# EAGLE library part CH585M (library CH585M)
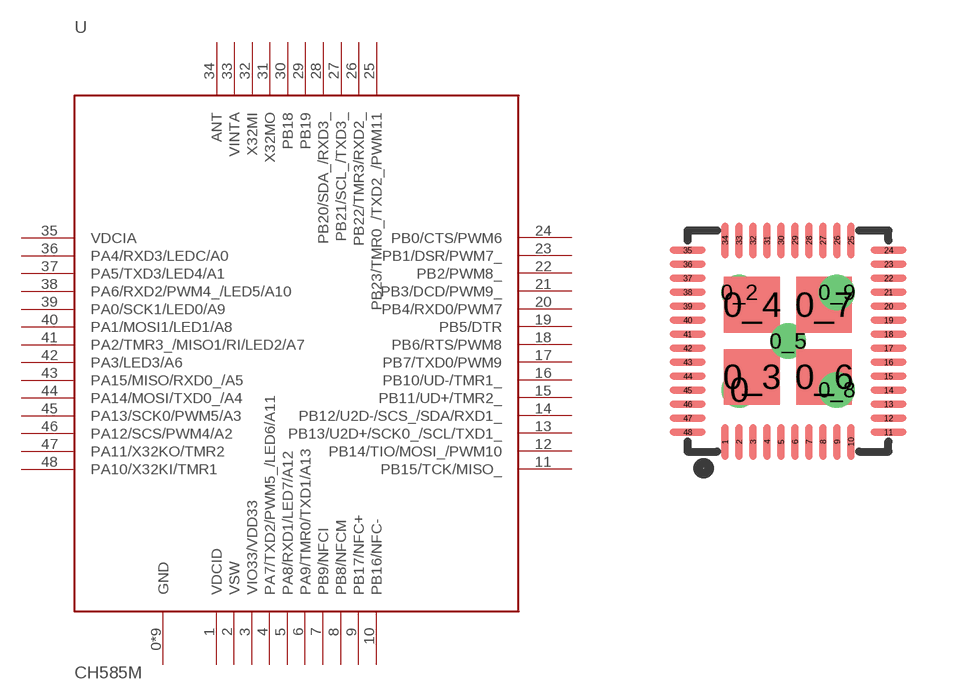
[diagram p0: symbol with the pads of QFN48_5X5; footprint QFN48_5X5]

Designator prefix U

## CH585M-QFN48_5X5  [QFN48_5X5]
0  GND
0_2  GND
0_3  GND
0_4  GND
0_5  GND
0_6  GND
0_7  GND
0_8  GND
0_9  GND
1  VDCID
2  VSW
3  VIO33/VDD33
4  PA7/TXD2/PWM5_/LED6/A11
5  PA8/RXD1/LED7/A12
6  PA9/TMR0/TXD1/A13
7  PB9/NFCI
8  PB8/NFCM
9  PB17/NFC+
10  PB16/NFC-
11  PB15/TCK/MISO_
12  PB14/TIO/MOSI_/PWM10
13  PB13/U2D+/SCK0_/SCL/TXD1_
14  PB12/U2D-/SCS_/SDA/RXD1_
15  PB11/UD+/TMR2_
16  PB10/UD-/TMR1_
17  PB7/TXD0/PWM9
18  PB6/RTS/PWM8
19  PB5/DTR
20  PB4/RXD0/PWM7
21  PB3/DCD/PWM9_
22  PB2/PWM8_
23  PB1/DSR/PWM7_
24  PB0/CTS/PWM6
25  PB23/TMR0_/TXD2_/PWM11
26  PB22/TMR3/RXD2_
27  PB21/SCL_/TXD3_
28  PB20/SDA_/RXD3_
29  PB19
30  PB18
31  X32MO
32  X32MI
33  VINTA
34  ANT
35  VDCIA
36  PA4/RXD3/LEDC/A0
37  PA5/TXD3/LED4/A1
38  PA6/RXD2/PWM4_/LED5/A10
39  PA0/SCK1/LED0/A9
40  PA1/MOSI1/LED1/A8
41  PA2/TMR3_/MISO1/RI/LED2/A7
42  PA3/LED3/A6
43  PA15/MISO/RXD0_/A5
44  PA14/MOSI/TXD0_/A4
45  PA13/SCK0/PWM5/A3
46  PA12/SCS/PWM4/A2
47  PA11/X32KO/TMR2
48  PA10/X32KI/TMR1

## Footprint QFN48_5X5 (pad centres in mm)
drill 0.381 pad 0.559 round: 0 -1.219,-1.219; 0_2 -1.219,1.219; 0_5 0,0; 0_8 1.219,-1.219; 0_9 1.219,1.219
smd 1.397 x 1.397: 0_3 -0.901,-0.895; 0_4 -0.901,0.908; 0_6 0.902,-0.895; 0_7 0.902,0.908
smd 0.18 x 0.9: 1 -1.575,-2.519; 2 -1.225,-2.519; 3 -0.875,-2.519; 4 -0.525,-2.519; 5 -0.175,-2.519; 6 0.175,-2.519; 7 0.525,-2.519; 8 0.875,-2.519; 9 1.225,-2.519; 10 1.575,-2.519; 25 1.575,2.519; 26 1.225,2.519; 27 0.875,2.519; 28 0.525,2.519; 29 0.175,2.519; 30 -0.175,2.519; 31 -0.525,2.519; 32 -0.875,2.519; 33 -1.225,2.519; 34 -1.575,2.519
smd 0.9 x 0.18: 11 2.514,-2.275; 12 2.514,-1.925; 13 2.514,-1.575; 14 2.514,-1.225; 15 2.514,-0.875; 16 2.514,-0.525; 17 2.514,-0.175; 18 2.514,0.175; 19 2.514,0.525; 20 2.514,0.875; 21 2.514,1.225; 22 2.514,1.575; 23 2.514,1.925; 24 2.514,2.275; 35 -2.514,2.275; 36 -2.514,1.925; 37 -2.514,1.575; 38 -2.514,1.225; 39 -2.514,0.875; 40 -2.514,0.525; 41 -2.514,0.175; 42 -2.514,-0.175; 43 -2.514,-0.525; 44 -2.514,-0.875; 45 -2.514,-1.225; 46 -2.514,-1.575; 47 -2.514,-1.925; 48 -2.514,-2.275